# Altium schematic symbol library soldeerstation.SCHLIB: 41 symbols
Pins are listed as number, name and electrical type; pins without a type are passive.

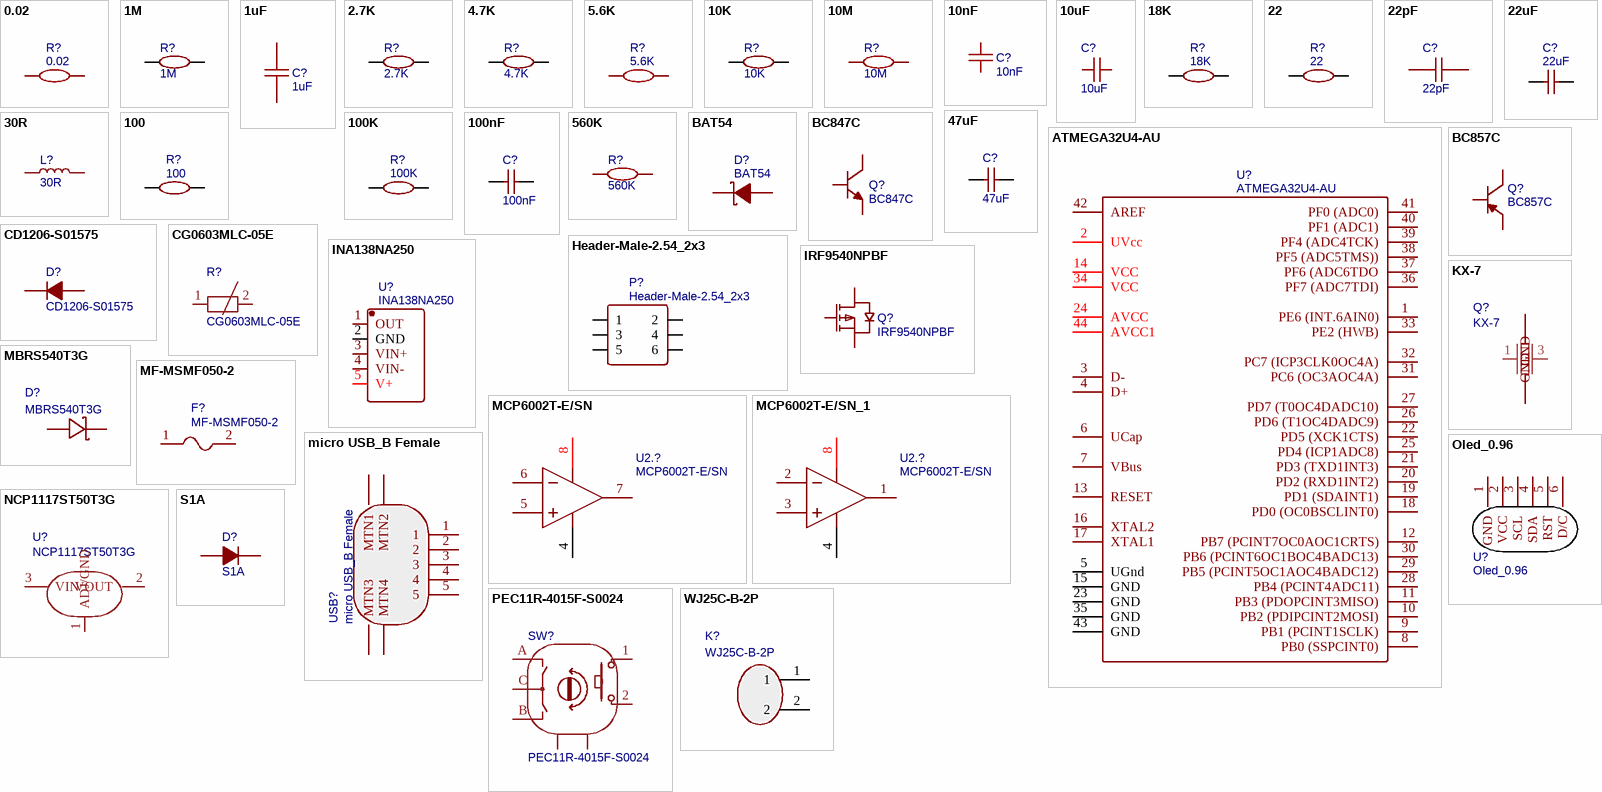
[diagram p0: symbols 0.02 to WJ25C-B-2P]

## 0.02
designator R?
BOM_Manufacturer: KOA; BOM_Manufacturer Part: LR12DL1020LJ; nameAlias: Resistance (Ohms); Contributor: LCSC; BOM_Supplier: LCSC; BOM_Supplier Part: C159865; spicePre: R; spiceSymbolName: LR12DL1020LJ
footprint LR12DL1020LJ
pins: 1, 2

## 1M
designator R?
BOM_Manufacturer: UniOhm; BOM_Manufacturer Part: TC0525F1004T5E; nameAlias: Resistance (Ohms); BOM_Supplier: LCSC; BOM_Supplier Part: C75782; spicePre: R; spiceSymbolName: TC0525F1004T5E
footprint 0805
pins: 1, 2

## 1uF
designator C?
BOM_Manufacturer: AVX; BOM_Manufacturer Part: 08053C105KAT2A; nameAlias: Capacitance; Contributor: LCSC; BOM_Supplier: LCSC; BOM_Supplier Part: C187826; spicePre: C; spiceSymbolName: 08053C105KAT2A
footprint 0805
pins: 1, 2

## 2.7K
designator R?
BOM_Manufacturer: UniOhm; BOM_Manufacturer Part: TC0525F2701T5E; nameAlias: Resistance (Ohms); BOM_Supplier: LCSC; BOM_Supplier Part: C57249; spicePre: R; spiceSymbolName: TC0525F2701T5E
footprint 0805
pins: 1, 2

## 4.7K
designator R?
BOM_Manufacturer Part: TC0525B4701T5E; BOM_Manufacturer: UniOhm; nameAlias: Resistance (Ohms); BOM_Supplier: LCSC; BOM_Supplier Part: C47010; spicePre: R; spiceSymbolName: TC0525B4701T5E
footprint 0805
pins: 1, 2

## 5.6K
designator R?
BOM_Manufacturer: Viking Tech; BOM_Manufacturer Part: ARG05FTC5601; nameAlias: Resistance (Ohms); Contributor: LCSC; BOM_Supplier: LCSC; BOM_Supplier Part: C218641; spicePre: R; spiceSymbolName: ARG05FTC5601
footprint 0805
pins: 1, 2

## 10K
designator R?
BOM_Manufacturer: UniOhm; BOM_Manufacturer Part: TC0550F1002T5E; nameAlias: Resistance (Ohms); BOM_Supplier: LCSC; BOM_Supplier Part: C57859; spicePre: R; spiceSymbolName: TC0550F1002T5E
footprint 0805
pins: 1, 2

## 10M
designator R?
BOM_Manufacturer: Tyohm; BOM_Manufacturer Part: RMC080510M1%N; nameAlias: Resistance (Ohms); Contributor: LCSC; BOM_Supplier: LCSC; BOM_Supplier Part: C325949; spicePre: R; spiceSymbolName: RMC080510M1%N
footprint 0805
pins: 1, 2

## 10nF
designator C?
BOM_Manufacturer: Huaxin S&T; BOM_Manufacturer Part: 0805B103J500; nameAlias: Capacitance; Contributor: LCSC; BOM_Supplier: LCSC; BOM_Supplier Part: C129612; spicePre: C; spiceSymbolName: 0805B103J500
footprint 0805

## 10uF
designator C?
BOM_Manufacturer: Taiyo Yuden; BOM_Manufacturer Part: GMK316BJ106KL-T; nameAlias: Capacitance; Contributor: LCSC; BOM_Supplier: LCSC; BOM_Supplier Part: C92797; spicePre: C; spiceSymbolName: GMK316BJ106KL-T
footprint 1206

## 18K
designator R?
BOM_Manufacturer: UniOhm; BOM_Manufacturer Part: TC0525F1802T5E; nameAlias: Resistance (Ohms); BOM_Supplier: LCSC; BOM_Supplier Part: C83390; spicePre: R; spiceSymbolName: TC0525F1802T5E
footprint 0805
pins: 1, 2

## 22
designator R?
BOM_Manufacturer Part: TC0525F220JT5E; BOM_Manufacturer: UniOhm; nameAlias: Resistance (Ohms); BOM_Supplier: LCSC; BOM_Supplier Part: C65068; spicePre: R; spiceSymbolName: TC0525F220JT5E
footprint 0805
pins: 1, 2

## 22pF
designator C?
BOM_Manufacturer: Huaxin S&T; BOM_Manufacturer Part: 0805N220K500CT; nameAlias: Capacitance; Contributor: LCSC; BOM_Supplier: LCSC; BOM_Supplier Part: C296091; spicePre: C; spiceSymbolName: 0805N220K500CT
footprint 0805
pins: 1, 2

## 22uF
designator C?
BOM_Manufacturer: FH; BOM_Manufacturer Part: 0805F226M100NT; nameAlias: Capacitance; BOM_Supplier: LCSC; BOM_Supplier Part: C67101; spicePre: C; spiceSymbolName: 0805F226M100NT
footprint 0805
pins: 1, 2

## 30R
designator L?
BOM_Manufacturer Part: MH2029-300Y; spicePre: F
footprint L0805
pins: 1, 2

## 47uF
designator C?
BOM_Manufacturer: FH; BOM_Manufacturer Part: 0805F476M100NT; nameAlias: Capacitance; BOM_Supplier: LCSC; BOM_Supplier Part: C108658; spicePre: C; spiceSymbolName: 0805F476M100NT
footprint 0805
pins: 1, 2

## 100
designator R?
BOM_Manufacturer: Viking Tech; BOM_Manufacturer Part: AR05FTC1000; nameAlias: Resistance (Ohms); Contributor: LCSC; BOM_Supplier: LCSC; BOM_Supplier Part: C234699; spicePre: R; spiceSymbolName: AR05FTC1000
footprint 0805
pins: 1, 2

## 100K
designator R?
BOM_Manufacturer Part: TC0525F1003T5E; BOM_Manufacturer: UniOhm; nameAlias: Resistance (Ohms); BOM_Supplier: LCSC; BOM_Supplier Part: C57246; spicePre: R; spiceSymbolName: TC0525F1003T5E
footprint 0805
pins: 1, 2

## 100nF
designator C?
BOM_Manufacturer: AVX; BOM_Manufacturer Part: 08055C104KAT2A; nameAlias: Capacitance; Contributor: LCSC; BOM_Supplier: LCSC; BOM_Supplier Part: C123316; spicePre: C; spiceSymbolName: 08055C104KAT2A
footprint 0805
pins: 1, 2

## 560K
designator R?
BOM_Manufacturer: Viking Tech; BOM_Manufacturer Part: ARG05FTC5603; nameAlias: Resistance (Ohms); Contributor: LCSC; BOM_Supplier: LCSC; BOM_Supplier Part: C218623; spicePre: R; spiceSymbolName: ARG05FTC5603
footprint 0805
pins: 1, 2

## ATMEGA32U4-AU
designator U?
BOM_Manufacturer: MICROCHIP; BOM_Supplier: LCSC; BOM_Manufacturer Part: ATMEGA32U4-AU; image: //image.lceda.cn/szlcsc/C44854.jpg; BOM_Supplier Part: C44854; spicePre: U
footprint QFP-44_10X10X08P
pins: 1 PE6 (INT.6AIN0), 2 UVcc, 3 D-, 4 D+, 5 UGnd, 6 UCap, 7 VBus, 8 PB0 (SSPCINT0), 9 PB1 (PCINT1SCLK), 10 PB2 (PDIPCINT2MOSI), 11 PB3 (PDOPCINT3MISO), 12 PB7 (PCINT7OC0AOC1CRTS), 13 RESET, 14 VCC, 15 GND, 16 XTAL2, 17 XTAL1, 18 PD0 (OC0BSCLINT0), 19 PD1 (SDAINT1), 20 PD2 (RXD1INT2), 21 PD3 (TXD1INT3), 22 PD5 (XCK1CTS), 23 GND, 24 AVCC, 25 PD4 (ICP1ADC8), 26 PD6 (T1OC4DADC9), 27 PD7 (T0OC4DADC10), 28 PB4 (PCINT4ADC11), 29 PB5 (PCINT5OC1AOC4BADC12), 30 PB6 (PCINT6OC1BOC4BADC13), 31 PC6 (OC3AOC4A), 32 PC7 (ICP3CLK0OC4A), 33 PE2 (HWB), 34 VCC, 35 GND, 36 PF7 (ADC7TDI), 37 PF6 (ADC6TDO, 38 PF5 (ADC5TMS)), 39 PF4 (ADC4TCK), 40 PF1 (ADC1), 41 PF0 (ADC0), 42 AREF, 43 GND, 44 AVCC1

## BAT54
designator D?
BOM_Manufacturer: Hottech; Contributor: LCSC; BOM_Supplier: LCSC; BOM_Manufacturer Part: BAT54; BOM_Supplier Part: C181198; spicePre: D
footprint SOT-23(SOT-23-3)
pins: 1 A, 3 K

## BC847C
designator Q?
BOM_Manufacturer: Hottech; Contributor: LCSC; BOM_Supplier: LCSC; BOM_Manufacturer Part: BC847C; BOM_Supplier Part: C181141; spicePre: Q
footprint SOT-23(SOT-23-3)
pins: 1 B, 2 E, 3 C

## BC857C
designator Q?
BOM_Manufacturer: Hottech; Contributor: LCSC; BOM_Supplier: LCSC; BOM_Manufacturer Part: BC857C; BOM_Supplier Part: C181147; spicePre: Q
footprint SOT-23(SOT-23-3)
pins: 1 B, 2 E, 3 C

## CD1206-S01575
designator D?
BOM_Manufacturer: BOURNS; Contributor: LCSC; BOM_Supplier: LCSC; BOM_Supplier Part: C75465; BOM_Manufacturer Part: CD1206-S01575; spicePre: D
footprint D-1206
pins: 1 A, 2 K

## CG0603MLC-05E
designator R?
BOM_Manufacturer Part: CG0603MLC-05E; spicePre: R
footprint R0603
pins: 1, 2

## Header-Male-2.54_2x3
designator P?
BOM_Manufacturer: BOOMELE; BOM_Supplier: LCSC; BOM_Manufacturer Part: Header-Male-2.54_2x3; BOM_Supplier Part: C65114; spicePre: P
footprint HDR-3X2/2.54
pins: 1, 2, 3, 4, 5, 6

## INA138NA250
designator U?
BOM_Manufacturer: TI; Contributor: LCSC; BOM_Supplier: LCSC; BOM_Manufacturer Part: INA138NA250; BOM_Supplier Part: C133804; spicePre: U
footprint SOT-23-5
pins: 1 OUT, 2 GND, 3 VIN+, 4 VIN-, 5 V+

## IRF9540NPBF
designator Q?
BOM_Manufacturer: IR; BOM_Supplier: LCSC; BOM_Manufacturer Part: IRF9540NPBF; image: //image.lceda.cn/szlcsc/C2575.jpg; BOM_Supplier Part: C2575; spicePre: Q
footprint TO-220(TO-220-3)
pins: 1 G, 2 D, 3 S

## KX-7
designator Q?
BOM_Manufacturer Part: GEYER 32MHz 10/10; Contributor: bazis.ural; spicePre: Q
footprint KX-7
pins: 1, 2 GND, 3 2, 4 GND

## MBRS540T3G
designator D?
Manufacturer: ON Semiconductor; nameAlias: Model; Contributor: elnarte; spicePre: D; BOM_Manufacturer Part: ?; spiceSymbolName: MBRS540T3G
footprint SMC
pins: A, C

## MCP6002T-E/SN
designator U2.?
BOM_Manufacturer: MICROCHIP; subpart_no: 1; BOM_Supplier Part: C125816; BOM_Supplier: LCSC; BOM_Manufacturer Part: MCP6002T-E/SN; Operating Temperature: -40¡ãC ~ 125¡ãC; spicePre: U
footprint SOIC-8_150MIL
pins: 4 VSS, 5 VINB+, 6 VINB-, 7 VOUTB, 8 VDD

## MCP6002T-E/SN_1
designator U2.?, comment MCP6002T-E/SN
BOM_Manufacturer: MICROCHIP; subpart_no: 2; BOM_Supplier Part: C125816; BOM_Supplier: LCSC; BOM_Manufacturer Part: MCP6002T-E/SN; Operating Temperature: -40¡ãC ~ 125¡ãC; spicePre: U
footprint SOIC-8_150MIL
pins: 1 VOUTA, 2 VINA-, 3 VINA+, 4 VSS, 8 VDD

## MF-MSMF050-2
designator F?
BOM_Manufacturer: BOURNS; BOM_Supplier: LCSC; BOM_Manufacturer Part: MF-MSMF050-2; BOM_Supplier Part: C17313; spicePre: U
footprint 1812
pins: 1, 2

## micro USB_B Female
designator USB?
BOM_Manufacturer: ValuePro; BOM_Manufacturer Part: micro USBFemale; BOM_Supplier: LCSC; image: //image.lceda.cn/szlcsc/C10418.jpg; BOM_Supplier Part: C10418; spicePre: U
footprint MICRO-USB-1
pins: 0 MTN4, 0 MTN3, 0 MTN2, 0 MTN1, 1, 2, 3, 4, 5

## NCP1117ST50T3G
designator U?
BOM_Manufacturer: ON; timeStamp: 1466353290; BOM_Supplier: LCSC; BOM_Manufacturer Part: NCP1117ST50T3G; image: //image.lceda.cn/szlcsc/C17314.jpg; BOM_Supplier Part: C17314; spicePre: U
footprint SOT-223
pins: 1 ADJ/GND, 2 VOUT, 3 VIN

## Oled_0.96
designator U?
BOM_Manufacturer Part: Oled_0.96''; Contributor: Ivan K; spicePre: U
footprint OLED_0.96''
pins: 1 GND, 2 VCC, 3 SCL, 4 SDA, 5 RST, 6 D/C

## PEC11R-4015F-S0024
designator SW?
BOM_Manufacturer: BOURNS; Contributor: LCSC; BOM_Supplier: LCSC; BOM_Supplier Part: C143789; BOM_Manufacturer Part: PEC11R-4015F-S0024; spicePre: S
footprint BOURNS_PEC11R-4XXXF-SXXXX
pins: 1, 2, A, B, C, MT1, MT2

## S1A
designator D?
BOM_Manufacturer: MDD; BOM_Supplier: LCSC; BOM_Manufacturer Part: S1A; image: //image.lceda.cn/szlcsc/C64912.jpg; BOM_Supplier Part: C64912; spicePre: D
footprint SMA(DO-214AC)
pins: 1 A, 2 K

## WJ25C-B-2P
designator K?
BOM_Manufacturer: ReliaPro; BOM_Supplier: LCSC; BOM_Manufacturer Part: WJ25C-B-2P; image: //image.lceda.cn/szlcsc/C8422.jpg; BOM_Supplier Part: C8422; spicePre: P
footprint WJ25C-B-7.62-2P
pins: 1, 2

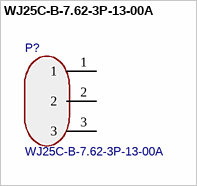
[diagram p1: symbol WJ25C-B-7.62-3P-13-00A]

## WJ25C-B-7.62-3P-13-00A
designator P?
BOM_Manufacturer: ReliaPro; BOM_Supplier: LCSC; BOM_Manufacturer Part: WJ25C-B-7.62-3P-13-00A; image: //image.lceda.cn/szlcsc/C61583.jpg; BOM_Supplier Part: C61583; spicePre: P
footprint WJ25C-B-7.62-3P
pins: 1, 2, 3